# Altium footprint library QUTMS_InterfaceLibrary.PcbLib: 2 footprints
Each footprint in its own frame and in the unit in brackets; x right, y up, seen from the top. Pads: shape width x height; smd on the part's side, far side on the other; paste and mask are expansions set on the pad; w line width, h text height; cw(c..) or ccw(c..) is an arc to the next point about the centre after c.
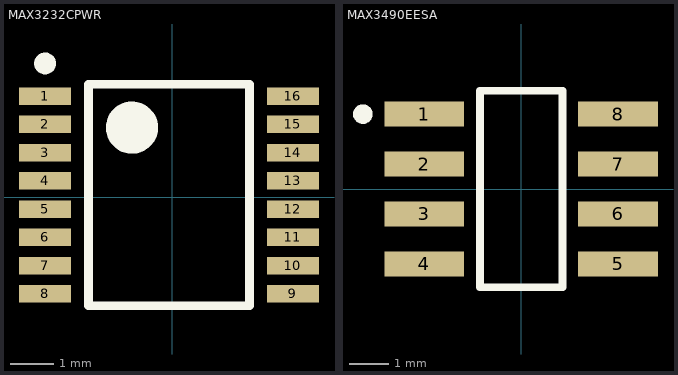
[diagram p0: the footprints below, top view; thin cyan lines are the x and y axes]

## MAX3232CPWR [mm]
pads (16):
  rect 1.2x0.4 smd: 1(-2.929,2.332) 2(-2.929,1.682) 3(-2.929,1.032) 4(-2.929,0.382) 5(-2.929,-0.268) 6(-2.929,-0.918) 7(-2.929,-1.568) 8(-2.929,-2.218) 9(2.771,-2.218) 10(2.771,-1.568) 11(2.771,-0.918) 12(2.771,-0.268) 13(2.771,0.382) 14(2.771,1.032) 15(2.771,1.682) 16(2.771,2.332)
Top Overlay:
  circle w0.25: c-2.929,3.082 r0.125
  circle w0.6: c-0.929,1.607 r0.3
  lines w0.2: -1.929,-2.493 -1.929,2.607 1.771,2.607 1.771,-2.493 -1.929,-2.493
3D body "PW0016AakaMTC16.stp": height 1, standoff 0, extent -3.289,-2.443 3.132,2.557

## MAX3490EESA [mm]
pads (8):
  rect 2.032x0.635 smd: 1(-2.465,1.905) 2(-2.465,0.635) 3(-2.465,-0.635) 4(-2.465,-1.905) 5(2.465,-1.905) 6(2.465,-0.635) 7(2.465,0.635) 8(2.465,1.905)
Top Overlay:
  circle w0.25: c-4.025,1.905 r0.125
  lines w0.2: -1.05,-2.5 -1.05,2.5 1.05,2.5 1.05,-2.5 -1.05,-2.5
3D body "IC_Maxim_MAX772ESA_eec.STEP": height 1.75, standoff 0, extent -3,-2.45 3,2.45